# Altium integrated library Linear Technology PMIC-Switching Reg LTC1174-LTC3901.IntLib: 2647 symbols (part 40 of 310)
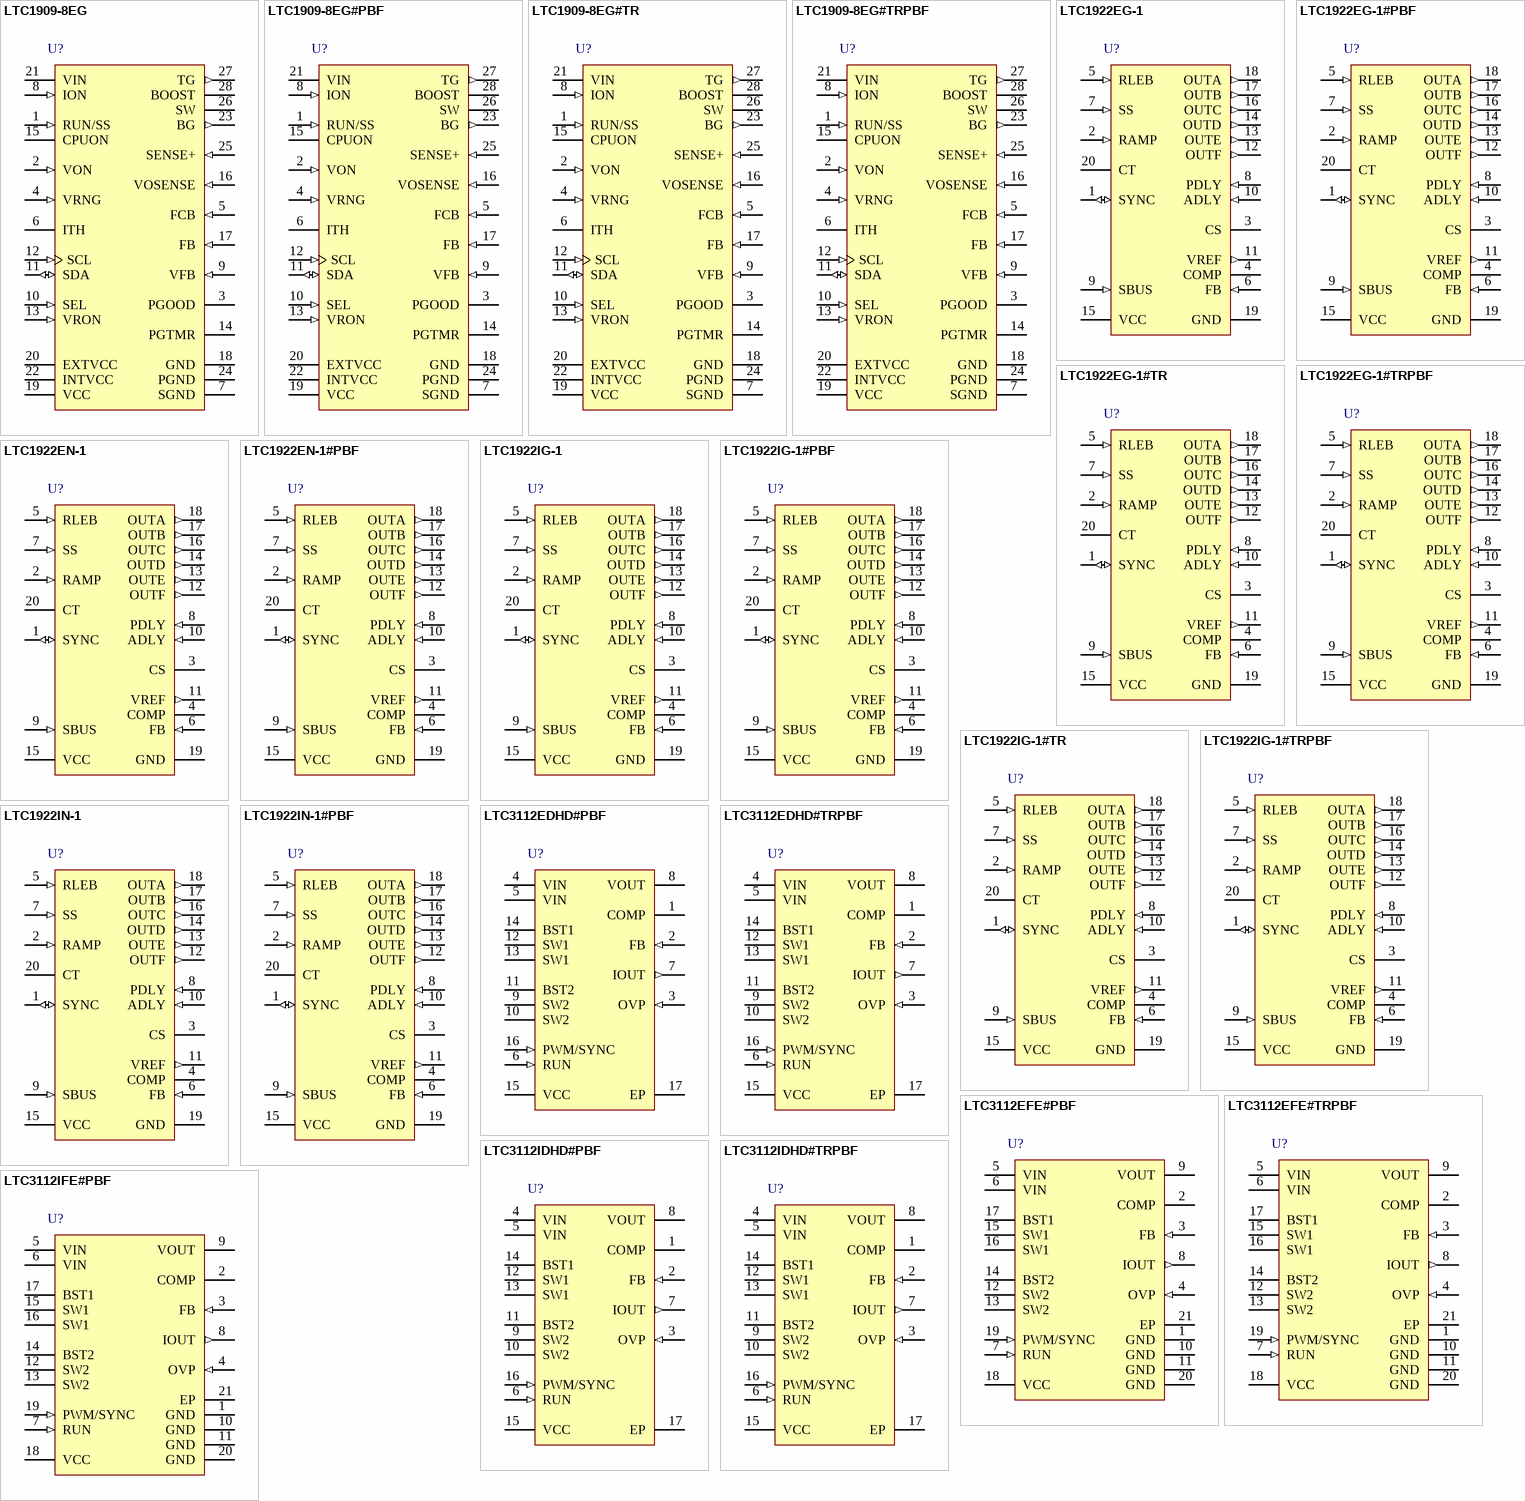
[diagram p138: symbols LTC1909-8EG to LTC3112IFE#PBF]

## LTC1922EN-1
designator U?
Synchronous Phase Modulated Full-Bridge Controller, Adaptive DirectSense Zero Voltage Switching, 20-pin DIP (N-20), -40 to 85 degC; Manufacturer: Linear Technology; PartNumber: LTC1922EN-1; Number of Outputs: 1; PackageReference: N-20; PackageDescription: 20-Pin PDIP, Body 26.924 x 6.477 mm, Pitch 2.54 mm; Supplier 1: Digi-Key; Supplier Part Number 1: LTC1922EN-1-ND; RoHS: FALSE
footprint LT-N-20 (DIP, 20-Leads, Body 26.924x6.477mm, Pitch 2.54mm)
pins: 1 SYNC (io) "Synchronization Input/Output for the Oscillator. Terminate SYNC with a 5.1k resistor to GND.", 2 RAMP (in) "Input to Phase Modulator Comparator. The voltage on RAMP is internally level shifted by 400mV.", 3 CS "Input to Current Limit Comparators, Output of Slope Compensation Circuitry", 4 COMP "Error Amplifier Output, Input to Phase Modulator.", 5 RLEB (in) "Timing Resistor for Leading Edge Blanking. Use a 10k to 100k resistor to program from 40ns to 310ns of leading edge blanking. A +/-1% tolerance resistor is recommended. Leading edge blanking may be defeated by connecting (See Datasheet)", 6 FB (in) "Error Amplifier Inverting Input. This is the voltage feedback input for the LTC1922-1.", 7 SS (in) "Soft-Start/Restart Delay Circuitry Timing Capacitor.", 8 PDLY (in) "Passive Leg Delay Circuit Input.", 9 SBUS (in) "Input (Bus) Voltage Sensing Input", 10 ADLY (in) "Active Leg Delay Circuit Input", 11 VREF (out) "5V Reference Output. VREF is capable of supplying up to 15mA to external circuitry. Bypass VREF with a 1uF (minimum) ceramic capacitor to GND.", 12 OUTF (out) "50mA Driver Output for Secondary Side Current Doubler Synchronous Rectifier.", 13 OUTE (out) "50mA Driver Output for Secondary Side Current Doubler Synchronous Rectifier.", 14 OUTD (out) "50mA Driver Output for Active Leg Low Side.", 15 VCC (power) "Chip Power Supply Input, 10.3V Shunt Regulator. Bypass VCC with a 0.1uF or larger ceramic capacitor to GND.", 16 OUTC (out) "50mA Driver Output for Active Leg High Side.", 17 OUTB (out) "50mA Driver Output for Passive Leg Low Side.", 18 OUTA (out) "50mA Driver Output for Passive Leg High Side.", 19 GND (power) "All Voltages on the LTC1922-1 Are Referred to GND.", 20 CT "Timing Capacitor for Oscillator. Use +/-5% or better multilayer NPO ceramic for best results."

## LTC1922EN-1#PBF
designator U?
Synchronous Phase Modulated Full-Bridge Controller, Adaptive DirectSense Zero Voltage Switching, 20-pin DIP (N-20), -40 to 85 degC, Pb-Free; Manufacturer: Linear Technology; PartNumber: LTC1922EN-1#PBF; Number of Outputs: 1; PackageReference: N-20; PackageDescription: 20-Pin PDIP, Body 26.924 x 6.477 mm, Pitch 2.54 mm; Supplier 1: Digi-Key; Supplier Part Number 1: LTC1922EN-1#PBF-ND; RoHS: TRUE
footprint LT-N-20 (DIP, 20-Leads, Body 26.924x6.477mm, Pitch 2.54mm)
pins: 1 SYNC (io) "Synchronization Input/Output for the Oscillator. Terminate SYNC with a 5.1k resistor to GND.", 2 RAMP (in) "Input to Phase Modulator Comparator. The voltage on RAMP is internally level shifted by 400mV.", 3 CS "Input to Current Limit Comparators, Output of Slope Compensation Circuitry", 4 COMP "Error Amplifier Output, Input to Phase Modulator.", 5 RLEB (in) "Timing Resistor for Leading Edge Blanking. Use a 10k to 100k resistor to program from 40ns to 310ns of leading edge blanking. A +/-1% tolerance resistor is recommended. Leading edge blanking may be defeated by connecting (See Datasheet)", 6 FB (in) "Error Amplifier Inverting Input. This is the voltage feedback input for the LTC1922-1.", 7 SS (in) "Soft-Start/Restart Delay Circuitry Timing Capacitor.", 8 PDLY (in) "Passive Leg Delay Circuit Input.", 9 SBUS (in) "Input (Bus) Voltage Sensing Input", 10 ADLY (in) "Active Leg Delay Circuit Input", 11 VREF (out) "5V Reference Output. VREF is capable of supplying up to 15mA to external circuitry. Bypass VREF with a 1uF (minimum) ceramic capacitor to GND.", 12 OUTF (out) "50mA Driver Output for Secondary Side Current Doubler Synchronous Rectifier.", 13 OUTE (out) "50mA Driver Output for Secondary Side Current Doubler Synchronous Rectifier.", 14 OUTD (out) "50mA Driver Output for Active Leg Low Side.", 15 VCC (power) "Chip Power Supply Input, 10.3V Shunt Regulator. Bypass VCC with a 0.1uF or larger ceramic capacitor to GND.", 16 OUTC (out) "50mA Driver Output for Active Leg High Side.", 17 OUTB (out) "50mA Driver Output for Passive Leg Low Side.", 18 OUTA (out) "50mA Driver Output for Passive Leg High Side.", 19 GND (power) "All Voltages on the LTC1922-1 Are Referred to GND.", 20 CT "Timing Capacitor for Oscillator. Use +/-5% or better multilayer NPO ceramic for best results."

## LTC1922IG-1
designator U?
Synchronous Phase Modulated Full-Bridge Controller, Adaptive DirectSense Zero Voltage Switching, 20-pin SOP (G-20), -40 to 85 degC; Manufacturer: Linear Technology; PartNumber: LTC1922IG-1; Number of Outputs: 1; PackageReference: G-20; PackageDescription: 20-Pin Plastic SSOP, Body 7.2 x 5.3 mm, Pitch 0.65 mm; Supplier 1: Digi-Key; Supplier Part Number 1: LTC1922IG-1-ND; RoHS: FALSE
footprint LT-G-20_N (SOP, 20-Leads, Body 7.2x5.3mm, Pitch 0.65mm, IPC Medium Density)
footprint LT-G-20_L (SOP, 20-Leads, Body 7.2x5.3mm, Pitch 0.65mm, IPC High Density)
footprint LT-G-20_M (SOP, 20-Leads, Body 7.2x5.3mm, Pitch 0.65mm, IPC Low Density)
pins: 1 SYNC (io) "Synchronization Input/Output for the Oscillator. Terminate SYNC with a 5.1k resistor to GND.", 2 RAMP (in) "Input to Phase Modulator Comparator. The voltage on RAMP is internally level shifted by 400mV.", 3 CS "Input to Current Limit Comparators, Output of Slope Compensation Circuitry", 4 COMP "Error Amplifier Output, Input to Phase Modulator.", 5 RLEB (in) "Timing Resistor for Leading Edge Blanking. Use a 10k to 100k resistor to program from 40ns to 310ns of leading edge blanking. A +/-1% tolerance resistor is recommended. Leading edge blanking may be defeated by connecting (See Datasheet)", 6 FB (in) "Error Amplifier Inverting Input. This is the voltage feedback input for the LTC1922-1.", 7 SS (in) "Soft-Start/Restart Delay Circuitry Timing Capacitor.", 8 PDLY (in) "Passive Leg Delay Circuit Input.", 9 SBUS (in) "Input (Bus) Voltage Sensing Input", 10 ADLY (in) "Active Leg Delay Circuit Input", 11 VREF (out) "5V Reference Output. VREF is capable of supplying up to 15mA to external circuitry. Bypass VREF with a 1uF (minimum) ceramic capacitor to GND.", 12 OUTF (out) "50mA Driver Output for Secondary Side Current Doubler Synchronous Rectifier.", 13 OUTE (out) "50mA Driver Output for Secondary Side Current Doubler Synchronous Rectifier.", 14 OUTD (out) "50mA Driver Output for Active Leg Low Side.", 15 VCC (power) "Chip Power Supply Input, 10.3V Shunt Regulator. Bypass VCC with a 0.1uF or larger ceramic capacitor to GND.", 16 OUTC (out) "50mA Driver Output for Active Leg High Side.", 17 OUTB (out) "50mA Driver Output for Passive Leg Low Side.", 18 OUTA (out) "50mA Driver Output for Passive Leg High Side.", 19 GND (power) "All Voltages on the LTC1922-1 Are Referred to GND.", 20 CT "Timing Capacitor for Oscillator. Use +/-5% or better multilayer NPO ceramic for best results."

## LTC1922IG-1#PBF
designator U?
Synchronous Phase Modulated Full-Bridge Controller, Adaptive DirectSense Zero Voltage Switching, 20-pin SOP (G-20), -40 to 85 degC, Pb-Free; Manufacturer: Linear Technology; PartNumber: LTC1922IG-1#PBF; Number of Outputs: 1; PackageReference: G-20; PackageDescription: 20-Pin Plastic SSOP, Body 7.2 x 5.3 mm, Pitch 0.65 mm; Supplier 1: Digi-Key; Supplier Part Number 1: LTC1922IG-1#PBF-ND; RoHS: TRUE
footprint LT-G-20_N (SOP, 20-Leads, Body 7.2x5.3mm, Pitch 0.65mm, IPC Medium Density)
footprint LT-G-20_L (SOP, 20-Leads, Body 7.2x5.3mm, Pitch 0.65mm, IPC High Density)
footprint LT-G-20_M (SOP, 20-Leads, Body 7.2x5.3mm, Pitch 0.65mm, IPC Low Density)
pins: 1 SYNC (io) "Synchronization Input/Output for the Oscillator. Terminate SYNC with a 5.1k resistor to GND.", 2 RAMP (in) "Input to Phase Modulator Comparator. The voltage on RAMP is internally level shifted by 400mV.", 3 CS "Input to Current Limit Comparators, Output of Slope Compensation Circuitry", 4 COMP "Error Amplifier Output, Input to Phase Modulator.", 5 RLEB (in) "Timing Resistor for Leading Edge Blanking. Use a 10k to 100k resistor to program from 40ns to 310ns of leading edge blanking. A +/-1% tolerance resistor is recommended. Leading edge blanking may be defeated by connecting (See Datasheet)", 6 FB (in) "Error Amplifier Inverting Input. This is the voltage feedback input for the LTC1922-1.", 7 SS (in) "Soft-Start/Restart Delay Circuitry Timing Capacitor.", 8 PDLY (in) "Passive Leg Delay Circuit Input.", 9 SBUS (in) "Input (Bus) Voltage Sensing Input", 10 ADLY (in) "Active Leg Delay Circuit Input", 11 VREF (out) "5V Reference Output. VREF is capable of supplying up to 15mA to external circuitry. Bypass VREF with a 1uF (minimum) ceramic capacitor to GND.", 12 OUTF (out) "50mA Driver Output for Secondary Side Current Doubler Synchronous Rectifier.", 13 OUTE (out) "50mA Driver Output for Secondary Side Current Doubler Synchronous Rectifier.", 14 OUTD (out) "50mA Driver Output for Active Leg Low Side.", 15 VCC (power) "Chip Power Supply Input, 10.3V Shunt Regulator. Bypass VCC with a 0.1uF or larger ceramic capacitor to GND.", 16 OUTC (out) "50mA Driver Output for Active Leg High Side.", 17 OUTB (out) "50mA Driver Output for Passive Leg Low Side.", 18 OUTA (out) "50mA Driver Output for Passive Leg High Side.", 19 GND (power) "All Voltages on the LTC1922-1 Are Referred to GND.", 20 CT "Timing Capacitor for Oscillator. Use +/-5% or better multilayer NPO ceramic for best results."

## LTC1922IG-1#TR
designator U?
Synchronous Phase Modulated Full-Bridge Controller, Adaptive DirectSense Zero Voltage Switching, 20-pin SOP (G-20), -40 to 85 degC, Tape and Reel; Manufacturer: Linear Technology; PartNumber: LTC1922IG-1#TR; Number of Outputs: 1; PackageReference: G-20; PackageDescription: 20-Pin Plastic SSOP, Body 7.2 x 5.3 mm, Pitch 0.65 mm; Supplier 1: Digi-Key; Supplier Part Number 1: LTC1922IG-1#TR-ND; RoHS: FALSE
footprint LT-G-20_N (SOP, 20-Leads, Body 7.2x5.3mm, Pitch 0.65mm, IPC Medium Density)
footprint LT-G-20_L (SOP, 20-Leads, Body 7.2x5.3mm, Pitch 0.65mm, IPC High Density)
footprint LT-G-20_M (SOP, 20-Leads, Body 7.2x5.3mm, Pitch 0.65mm, IPC Low Density)
pins: 1 SYNC (io) "Synchronization Input/Output for the Oscillator. Terminate SYNC with a 5.1k resistor to GND.", 2 RAMP (in) "Input to Phase Modulator Comparator. The voltage on RAMP is internally level shifted by 400mV.", 3 CS "Input to Current Limit Comparators, Output of Slope Compensation Circuitry", 4 COMP "Error Amplifier Output, Input to Phase Modulator.", 5 RLEB (in) "Timing Resistor for Leading Edge Blanking. Use a 10k to 100k resistor to program from 40ns to 310ns of leading edge blanking. A +/-1% tolerance resistor is recommended. Leading edge blanking may be defeated by connecting (See Datasheet)", 6 FB (in) "Error Amplifier Inverting Input. This is the voltage feedback input for the LTC1922-1.", 7 SS (in) "Soft-Start/Restart Delay Circuitry Timing Capacitor.", 8 PDLY (in) "Passive Leg Delay Circuit Input.", 9 SBUS (in) "Input (Bus) Voltage Sensing Input", 10 ADLY (in) "Active Leg Delay Circuit Input", 11 VREF (out) "5V Reference Output. VREF is capable of supplying up to 15mA to external circuitry. Bypass VREF with a 1uF (minimum) ceramic capacitor to GND.", 12 OUTF (out) "50mA Driver Output for Secondary Side Current Doubler Synchronous Rectifier.", 13 OUTE (out) "50mA Driver Output for Secondary Side Current Doubler Synchronous Rectifier.", 14 OUTD (out) "50mA Driver Output for Active Leg Low Side.", 15 VCC (power) "Chip Power Supply Input, 10.3V Shunt Regulator. Bypass VCC with a 0.1uF or larger ceramic capacitor to GND.", 16 OUTC (out) "50mA Driver Output for Active Leg High Side.", 17 OUTB (out) "50mA Driver Output for Passive Leg Low Side.", 18 OUTA (out) "50mA Driver Output for Passive Leg High Side.", 19 GND (power) "All Voltages on the LTC1922-1 Are Referred to GND.", 20 CT "Timing Capacitor for Oscillator. Use +/-5% or better multilayer NPO ceramic for best results."

## LTC1922IG-1#TRPBF
designator U?
Synchronous Phase Modulated Full-Bridge Controller, Adaptive DirectSense Zero Voltage Switching, 20-pin SOP (G-20), -40 to 85 degC, Pb-Free, Tape and Reel; Manufacturer: Linear Technology; PartNumber: LTC1922IG-1#TRPBF; Number of Outputs: 1; PackageReference: G-20; PackageDescription: 20-Pin Plastic SSOP, Body 7.2 x 5.3 mm, Pitch 0.65 mm; Supplier 1: Digi-Key; Supplier Part Number 1: LTC1922IG-1#TRPBF-ND; RoHS: TRUE
footprint LT-G-20_N (SOP, 20-Leads, Body 7.2x5.3mm, Pitch 0.65mm, IPC Medium Density)
footprint LT-G-20_L (SOP, 20-Leads, Body 7.2x5.3mm, Pitch 0.65mm, IPC High Density)
footprint LT-G-20_M (SOP, 20-Leads, Body 7.2x5.3mm, Pitch 0.65mm, IPC Low Density)
pins: 1 SYNC (io) "Synchronization Input/Output for the Oscillator. Terminate SYNC with a 5.1k resistor to GND.", 2 RAMP (in) "Input to Phase Modulator Comparator. The voltage on RAMP is internally level shifted by 400mV.", 3 CS "Input to Current Limit Comparators, Output of Slope Compensation Circuitry", 4 COMP "Error Amplifier Output, Input to Phase Modulator.", 5 RLEB (in) "Timing Resistor for Leading Edge Blanking. Use a 10k to 100k resistor to program from 40ns to 310ns of leading edge blanking. A +/-1% tolerance resistor is recommended. Leading edge blanking may be defeated by connecting (See Datasheet)", 6 FB (in) "Error Amplifier Inverting Input. This is the voltage feedback input for the LTC1922-1.", 7 SS (in) "Soft-Start/Restart Delay Circuitry Timing Capacitor.", 8 PDLY (in) "Passive Leg Delay Circuit Input.", 9 SBUS (in) "Input (Bus) Voltage Sensing Input", 10 ADLY (in) "Active Leg Delay Circuit Input", 11 VREF (out) "5V Reference Output. VREF is capable of supplying up to 15mA to external circuitry. Bypass VREF with a 1uF (minimum) ceramic capacitor to GND.", 12 OUTF (out) "50mA Driver Output for Secondary Side Current Doubler Synchronous Rectifier.", 13 OUTE (out) "50mA Driver Output for Secondary Side Current Doubler Synchronous Rectifier.", 14 OUTD (out) "50mA Driver Output for Active Leg Low Side.", 15 VCC (power) "Chip Power Supply Input, 10.3V Shunt Regulator. Bypass VCC with a 0.1uF or larger ceramic capacitor to GND.", 16 OUTC (out) "50mA Driver Output for Active Leg High Side.", 17 OUTB (out) "50mA Driver Output for Passive Leg Low Side.", 18 OUTA (out) "50mA Driver Output for Passive Leg High Side.", 19 GND (power) "All Voltages on the LTC1922-1 Are Referred to GND.", 20 CT "Timing Capacitor for Oscillator. Use +/-5% or better multilayer NPO ceramic for best results."

## LTC1922IN-1
designator U?
Synchronous Phase Modulated Full-Bridge Controller, Adaptive DirectSense Zero Voltage Switching, 20-pin DIP (N-20), -40 to 85 degC; Manufacturer: Linear Technology; PartNumber: LTC1922IN-1; Number of Outputs: 1; PackageReference: N-20; PackageDescription: 20-Pin PDIP, Body 26.924 x 6.477 mm, Pitch 2.54 mm; Supplier 1: Digi-Key; Supplier Part Number 1: LTC1922IN-1-ND; RoHS: FALSE
footprint LT-N-20 (DIP, 20-Leads, Body 26.924x6.477mm, Pitch 2.54mm)
pins: 1 SYNC (io) "Synchronization Input/Output for the Oscillator. Terminate SYNC with a 5.1k resistor to GND.", 2 RAMP (in) "Input to Phase Modulator Comparator. The voltage on RAMP is internally level shifted by 400mV.", 3 CS "Input to Current Limit Comparators, Output of Slope Compensation Circuitry", 4 COMP "Error Amplifier Output, Input to Phase Modulator.", 5 RLEB (in) "Timing Resistor for Leading Edge Blanking. Use a 10k to 100k resistor to program from 40ns to 310ns of leading edge blanking. A +/-1% tolerance resistor is recommended. Leading edge blanking may be defeated by connecting (See Datasheet)", 6 FB (in) "Error Amplifier Inverting Input. This is the voltage feedback input for the LTC1922-1.", 7 SS (in) "Soft-Start/Restart Delay Circuitry Timing Capacitor.", 8 PDLY (in) "Passive Leg Delay Circuit Input.", 9 SBUS (in) "Input (Bus) Voltage Sensing Input", 10 ADLY (in) "Active Leg Delay Circuit Input", 11 VREF (out) "5V Reference Output. VREF is capable of supplying up to 15mA to external circuitry. Bypass VREF with a 1uF (minimum) ceramic capacitor to GND.", 12 OUTF (out) "50mA Driver Output for Secondary Side Current Doubler Synchronous Rectifier.", 13 OUTE (out) "50mA Driver Output for Secondary Side Current Doubler Synchronous Rectifier.", 14 OUTD (out) "50mA Driver Output for Active Leg Low Side.", 15 VCC (power) "Chip Power Supply Input, 10.3V Shunt Regulator. Bypass VCC with a 0.1uF or larger ceramic capacitor to GND.", 16 OUTC (out) "50mA Driver Output for Active Leg High Side.", 17 OUTB (out) "50mA Driver Output for Passive Leg Low Side.", 18 OUTA (out) "50mA Driver Output for Passive Leg High Side.", 19 GND (power) "All Voltages on the LTC1922-1 Are Referred to GND.", 20 CT "Timing Capacitor for Oscillator. Use +/-5% or better multilayer NPO ceramic for best results."

## LTC1922IN-1#PBF
designator U?
Synchronous Phase Modulated Full-Bridge Controller, Adaptive DirectSense Zero Voltage Switching, 20-pin DIP (N-20), -40 to 85 degC, Pb-Free; Manufacturer: Linear Technology; PartNumber: LTC1922IN-1#PBF; Number of Outputs: 1; PackageReference: N-20; PackageDescription: 20-Pin PDIP, Body 26.924 x 6.477 mm, Pitch 2.54 mm; Supplier 1: Digi-Key; Supplier Part Number 1: LTC1922IN-1#PBF-ND; RoHS: TRUE
footprint LT-N-20 (DIP, 20-Leads, Body 26.924x6.477mm, Pitch 2.54mm)
pins: 1 SYNC (io) "Synchronization Input/Output for the Oscillator. Terminate SYNC with a 5.1k resistor to GND.", 2 RAMP (in) "Input to Phase Modulator Comparator. The voltage on RAMP is internally level shifted by 400mV.", 3 CS "Input to Current Limit Comparators, Output of Slope Compensation Circuitry", 4 COMP "Error Amplifier Output, Input to Phase Modulator.", 5 RLEB (in) "Timing Resistor for Leading Edge Blanking. Use a 10k to 100k resistor to program from 40ns to 310ns of leading edge blanking. A +/-1% tolerance resistor is recommended. Leading edge blanking may be defeated by connecting (See Datasheet)", 6 FB (in) "Error Amplifier Inverting Input. This is the voltage feedback input for the LTC1922-1.", 7 SS (in) "Soft-Start/Restart Delay Circuitry Timing Capacitor.", 8 PDLY (in) "Passive Leg Delay Circuit Input.", 9 SBUS (in) "Input (Bus) Voltage Sensing Input", 10 ADLY (in) "Active Leg Delay Circuit Input", 11 VREF (out) "5V Reference Output. VREF is capable of supplying up to 15mA to external circuitry. Bypass VREF with a 1uF (minimum) ceramic capacitor to GND.", 12 OUTF (out) "50mA Driver Output for Secondary Side Current Doubler Synchronous Rectifier.", 13 OUTE (out) "50mA Driver Output for Secondary Side Current Doubler Synchronous Rectifier.", 14 OUTD (out) "50mA Driver Output for Active Leg Low Side.", 15 VCC (power) "Chip Power Supply Input, 10.3V Shunt Regulator. Bypass VCC with a 0.1uF or larger ceramic capacitor to GND.", 16 OUTC (out) "50mA Driver Output for Active Leg High Side.", 17 OUTB (out) "50mA Driver Output for Passive Leg Low Side.", 18 OUTA (out) "50mA Driver Output for Passive Leg High Side.", 19 GND (power) "All Voltages on the LTC1922-1 Are Referred to GND.", 20 CT "Timing Capacitor for Oscillator. Use +/-5% or better multilayer NPO ceramic for best results."

## LTC3112EDHD#PBF
designator U?
2.5 A Synchronous Buck-Boost DC/DC Converter, 16-pin SON (DHD-16), -40 to 125 degC, Pb-Free; Manufacturer: Linear Technology; PartNumber: LTC3112EDHD#PBF; Number of Outputs: 1; PackageReference: DHD-16; PackageDescription: 16-Pin Plastic DFN, Body 5 x 4 mm, Pitch 0.5 mm; Supplier 1: Digi-Key; Supplier Part Number 1: LTC3112EDHD#PBF-ND; RoHS: TRUE; Code_JEDEC: MO-229
footprint LT-DHD-16_V (SON, 16-Leads, Body 5x4mm, Pitch 0.5mm, Thermal Pad 4.34x2.44mm)
pins: 1 COMP "Error Amp Output. An R-C network connected from this pin to FB sets the loop compensation for the voltage converter.", 2 FB (in) "Feedback Voltage Input. Connect VOUT resistor divider tap to this pin. The output voltage can be adjusted from 2.5V to 14V by the following equation:VOUT = 0.8V?(1+ R1/R2),where R1 is the resistor between VOUT and FB an(See Datasheet)", 3 OVP (in) "Overvoltage Protection Input. The common point of a resistor divider between VOUT and GND can also be used to program the overvoltage protection to a lower voltage by the following equation:VOVP = 0.83V?1+ R3/R4),where R(See Datasheet)", 4 VIN (power) "Input Supply Voltage. This pin should be bypassed to the ground plane with at least 10uF of low ESR, low ESL ceramic capacitance. Place this capacitor as close to the pin as possible and have as short a return path to the (See Datasheet)", 5 VIN (power) "Input Supply Voltage. This pin should be bypassed to the ground plane with at least 10uF of low ESR, low ESL ceramic capacitance. Place this capacitor as close to the pin as possible and have as short a return path to the (See Datasheet)", 6 RUN (in) "Shutdown Control Input. Operation will be disabled when the voltage is forced below 0.75V (typical) and less than 1uA of quiescent current will be consumed.", 7 IOUT (out) "A Current approximately 24uA/A of the D Switch Output Current is Sourced from this Pin. An R-C circuit can be used to control the average output current or provide an analog output current monitor (see Applications (See Datasheet)", 8 VOUT (power) "Regulated Output Voltage. This pin should be connected to a low ESR ceramic capacitor of at least 47uF. The capacitor should be placed as close to the pin as possible and have a short return to the ground plane.", 9 SW2 "Internal switches C and D and the external inductor are connected here.", 10 SW2 "Internal switches C and D and the external inductor are connected here.", 11 BST2 "Boosted Floating Driver Supply for D-Switch Driver. Connect a 0.1uF capacitor from this pin to SW2.", 12 SW1 "Internal switches A and B and the external inductor are connected here.", 13 SW1 "Internal switches A and B and the external inductor are connected here.", 14 BST1 "Boosted Floating Driver Supply for A-Switch Driver. Connect a 0.1uF capacitor from this pin to SW1.", 15 VCC (power) "External Capacitor Connection for the Regulated VCC Supply. This supply is used to operate internal circuitry and switch drivers. VCC will track VIN up to 4.2V, but will maintain this voltage when VIN > 4.2V. Connect a 1uF (See Datasheet)", 16 PWM/SYNC (in), 17 EP (power) "Ground. Small-Signal and Power Ground for the IC. The exposed pad must be soldered to the PCB and electrically connected to ground through the shortest and lowest impedance connection possible. The bulk of the heat flow is (See Datasheet)"

## LTC3112EDHD#TRPBF
designator U?
2.5 A Synchronous Buck-Boost DC/DC Converter, 16-pin SON (DHD-16), -40 to 125 degC, Pb-Free, Tape and Reel; Manufacturer: Linear Technology; PartNumber: LTC3112EDHD#TRPBF; Number of Outputs: 1; PackageReference: DHD-16; PackageDescription: 16-Pin Plastic DFN, Body 5 x 4 mm, Pitch 0.5 mm; Supplier 1: Digi-Key; Supplier Part Number 1: LTC3112EDHD#TRPBF-ND; RoHS: TRUE; Code_JEDEC: MO-229
footprint LT-DHD-16_V (SON, 16-Leads, Body 5x4mm, Pitch 0.5mm, Thermal Pad 4.34x2.44mm)
pins: 1 COMP "Error Amp Output. An R-C network connected from this pin to FB sets the loop compensation for the voltage converter.", 2 FB (in) "Feedback Voltage Input. Connect VOUT resistor divider tap to this pin. The output voltage can be adjusted from 2.5V to 14V by the following equation:VOUT = 0.8V?(1+ R1/R2),where R1 is the resistor between VOUT and FB an(See Datasheet)", 3 OVP (in) "Overvoltage Protection Input. The common point of a resistor divider between VOUT and GND can also be used to program the overvoltage protection to a lower voltage by the following equation:VOVP = 0.83V?1+ R3/R4),where R(See Datasheet)", 4 VIN (power) "Input Supply Voltage. This pin should be bypassed to the ground plane with at least 10uF of low ESR, low ESL ceramic capacitance. Place this capacitor as close to the pin as possible and have as short a return path to the (See Datasheet)", 5 VIN (power) "Input Supply Voltage. This pin should be bypassed to the ground plane with at least 10uF of low ESR, low ESL ceramic capacitance. Place this capacitor as close to the pin as possible and have as short a return path to the (See Datasheet)", 6 RUN (in) "Shutdown Control Input. Operation will be disabled when the voltage is forced below 0.75V (typical) and less than 1uA of quiescent current will be consumed.", 7 IOUT (out) "A Current approximately 24uA/A of the D Switch Output Current is Sourced from this Pin. An R-C circuit can be used to control the average output current or provide an analog output current monitor (see Applications (See Datasheet)", 8 VOUT (power) "Regulated Output Voltage. This pin should be connected to a low ESR ceramic capacitor of at least 47uF. The capacitor should be placed as close to the pin as possible and have a short return to the ground plane.", 9 SW2 "Internal switches C and D and the external inductor are connected here.", 10 SW2 "Internal switches C and D and the external inductor are connected here.", 11 BST2 "Boosted Floating Driver Supply for D-Switch Driver. Connect a 0.1uF capacitor from this pin to SW2.", 12 SW1 "Internal switches A and B and the external inductor are connected here.", 13 SW1 "Internal switches A and B and the external inductor are connected here.", 14 BST1 "Boosted Floating Driver Supply for A-Switch Driver. Connect a 0.1uF capacitor from this pin to SW1.", 15 VCC (power) "External Capacitor Connection for the Regulated VCC Supply. This supply is used to operate internal circuitry and switch drivers. VCC will track VIN up to 4.2V, but will maintain this voltage when VIN > 4.2V. Connect a 1uF (See Datasheet)", 16 PWM/SYNC (in), 17 EP (power) "Ground. Small-Signal and Power Ground for the IC. The exposed pad must be soldered to the PCB and electrically connected to ground through the shortest and lowest impedance connection possible. The bulk of the heat flow is (See Datasheet)"

## LTC3112EFE#PBF
designator U?
2.5 A Synchronous Buck-Boost DC/DC Converter, 20-pin SOP (FE-20-EPV-CA), -40 to 125 degC, Pb-Free; Manufacturer: Linear Technology; PartNumber: LTC3112EFE#PBF; Number of Outputs: 1; PackageReference: FE-20; PackageDescription: 20-Pin Plastic TSSOP, Body 6.5 x 4.4 mm, Pitch 0.65 mm; Supplier 1: Digi-Key; Supplier Part Number 1: LTC3112EFE#PBF-ND; RoHS: TRUE
footprint LT-FE-20-EPV-CA_N (SOP, 20-Leads, Body 6.6x4.5mm, Pitch 0.65mm, Thermal Pad 4.95x2.74mm, IPC Medium Density)
footprint LT-FE-20-EPV-CA_L (SOP, 20-Leads, Body 6.6x4.5mm, Pitch 0.65mm, Thermal Pad 4.95x2.74mm, IPC High Density)
footprint LT-FE-20-EPV-CA_M (SOP, 20-Leads, Body 6.6x4.5mm, Pitch 0.65mm, Thermal Pad 4.95x2.74mm, IPC Low Density)
pins: 1 GND (power) "Ground. Small-Signal and Power Ground for the IC.", 2 COMP "Error Amp Output. An R-C network connected from this pin to FB sets the loop compensation for the voltage converter.", 3 FB (in) "Feedback Voltage Input. Connect VOUT resistor divider tap to this pin. The output voltage can be adjusted from 2.5V to 14V by the following equation: VOUT = 0.8V? (1+R1/R2) where R1 is the resistor between VOUT and FB an(See Datasheet)", 4 OVP (in) "Overvoltage Protection Input. The common point of a resistor divider between VOUT and GND can also be used to program the overvoltage protection to a lower voltage by the following equation: VOVP = 0.83V? (1+R3/R4) wher(See Datasheet)", 5 VIN (power) "Input Supply Voltage. This pin should be bypassed to the ground plane with at least 10uF of low ESR, low ESL ceramic capacitance. Place this capacitor as close to the pin as possible and have as short a return path to the (See Datasheet)", 6 VIN (power) "Input Supply Voltage. This pin should be bypassed to the ground plane with at least 10uF of low ESR, low ESL ceramic capacitance. Place this capacitor as close to the pin as possible and have as short a return path to the (See Datasheet)", 7 RUN (in) "Shutdown Control Input. Operation will be disabled when the voltage is forced below 0.75V (typical) and less than 1uA of quiescent current will be consumed.", 8 IOUT (out) "A Current approximately 24uA/A of the D Switch Output Current is Sourced from this Pin. An R-C circuit can be used to control the average output current or provide an analog output current monitor (see Applications (See Datasheet)", 9 VOUT (power) "Regulated Output Voltage. This pin should be connected to a low ESR ceramic capacitor of at least 47uF. The capacitor should be placed as close to the pin as possible and have a short return to the ground plane.", 10 GND (power) "Ground. Small-Signal and Power Ground for the IC.", 11 GND (power) "Ground. Small-Signal and Power Ground for the IC.", 12 SW2 "Internal switches C and D and the external inductor are connected here.", 13 SW2 "Internal switches C and D and the external inductor are connected here.", 14 BST2 "Boosted Floating Driver Supply for D-Switch Driver. Connect a 0.1uF capacitor from this pin to SW2.", 15 SW1 "Internal switches A and B and the external inductor are connected here.", 16 SW1 "Internal switches A and B and the external inductor are connected here.", 17 BST1 "Boosted Floating Driver Supply for A-Switch Driver. Connect a 0.1uF capacitor from this pin to SW1.", 18 VCC (power) "External Capacitor Connection for the Regulated VCC Supply. This supply is used to operate internal circuitry and switch drivers. VCC will track VIN up to 4.2V, but will maintain this voltage when VIN > 4.2V. Connect a 1uF (See Datasheet)", 19 PWM/SYNC (in) "Burst Mode Control and Synchronization Input. A DC voltage <0.5V commands Burst Mode operation, >1.5V commands 750kHz fixed frequency mode. A digital pulse train between 300kHz and 1500kHz applied to this pin will override (See Datasheet)", 20 GND (power) "Ground. Small-Signal and Power Ground for the IC.", 21 EP (power) "The exposed pad must be soldered to the PCB and electrically connected to ground through the shortest and lowest impedance connection possible. The bulk of the heat flow is through this pad, so printed circuit board design (See Datasheet)"

## LTC3112EFE#TRPBF
designator U?
2.5 A Synchronous Buck-Boost DC/DC Converter, 20-pin SOP (FE-20-EPV-CA), -40 to 125 degC, Pb-Free, Tape and Reel; Manufacturer: Linear Technology; PartNumber: LTC3112EFE#TRPBF; Number of Outputs: 1; PackageReference: FE-20; PackageDescription: 20-Pin Plastic TSSOP, Body 6.5 x 4.4 mm, Pitch 0.65 mm; Supplier 1: Digi-Key; Supplier Part Number 1: LTC3112EFE#TRPBF-ND; RoHS: TRUE
footprint LT-FE-20-EPV-CA_N (SOP, 20-Leads, Body 6.6x4.5mm, Pitch 0.65mm, Thermal Pad 4.95x2.74mm, IPC Medium Density)
footprint LT-FE-20-EPV-CA_L (SOP, 20-Leads, Body 6.6x4.5mm, Pitch 0.65mm, Thermal Pad 4.95x2.74mm, IPC High Density)
footprint LT-FE-20-EPV-CA_M (SOP, 20-Leads, Body 6.6x4.5mm, Pitch 0.65mm, Thermal Pad 4.95x2.74mm, IPC Low Density)
pins: 1 GND (power) "Ground. Small-Signal and Power Ground for the IC.", 2 COMP "Error Amp Output. An R-C network connected from this pin to FB sets the loop compensation for the voltage converter.", 3 FB (in) "Feedback Voltage Input. Connect VOUT resistor divider tap to this pin. The output voltage can be adjusted from 2.5V to 14V by the following equation: VOUT = 0.8V? (1+R1/R2) where R1 is the resistor between VOUT and FB an(See Datasheet)", 4 OVP (in) "Overvoltage Protection Input. The common point of a resistor divider between VOUT and GND can also be used to program the overvoltage protection to a lower voltage by the following equation: VOVP = 0.83V? (1+R3/R4) wher(See Datasheet)", 5 VIN (power) "Input Supply Voltage. This pin should be bypassed to the ground plane with at least 10uF of low ESR, low ESL ceramic capacitance. Place this capacitor as close to the pin as possible and have as short a return path to the (See Datasheet)", 6 VIN (power) "Input Supply Voltage. This pin should be bypassed to the ground plane with at least 10uF of low ESR, low ESL ceramic capacitance. Place this capacitor as close to the pin as possible and have as short a return path to the (See Datasheet)", 7 RUN (in) "Shutdown Control Input. Operation will be disabled when the voltage is forced below 0.75V (typical) and less than 1uA of quiescent current will be consumed.", 8 IOUT (out) "A Current approximately 24uA/A of the D Switch Output Current is Sourced from this Pin. An R-C circuit can be used to control the average output current or provide an analog output current monitor (see Applications (See Datasheet)", 9 VOUT (power) "Regulated Output Voltage. This pin should be connected to a low ESR ceramic capacitor of at least 47uF. The capacitor should be placed as close to the pin as possible and have a short return to the ground plane.", 10 GND (power) "Ground. Small-Signal and Power Ground for the IC.", 11 GND (power) "Ground. Small-Signal and Power Ground for the IC.", 12 SW2 "Internal switches C and D and the external inductor are connected here.", 13 SW2 "Internal switches C and D and the external inductor are connected here.", 14 BST2 "Boosted Floating Driver Supply for D-Switch Driver. Connect a 0.1uF capacitor from this pin to SW2.", 15 SW1 "Internal switches A and B and the external inductor are connected here.", 16 SW1 "Internal switches A and B and the external inductor are connected here.", 17 BST1 "Boosted Floating Driver Supply for A-Switch Driver. Connect a 0.1uF capacitor from this pin to SW1.", 18 VCC (power) "External Capacitor Connection for the Regulated VCC Supply. This supply is used to operate internal circuitry and switch drivers. VCC will track VIN up to 4.2V, but will maintain this voltage when VIN > 4.2V. Connect a 1uF (See Datasheet)", 19 PWM/SYNC (in) "Burst Mode Control and Synchronization Input. A DC voltage <0.5V commands Burst Mode operation, >1.5V commands 750kHz fixed frequency mode. A digital pulse train between 300kHz and 1500kHz applied to this pin will override (See Datasheet)", 20 GND (power) "Ground. Small-Signal and Power Ground for the IC.", 21 EP (power) "The exposed pad must be soldered to the PCB and electrically connected to ground through the shortest and lowest impedance connection possible. The bulk of the heat flow is through this pad, so printed circuit board design (See Datasheet)"

## LTC3112IDHD#PBF
designator U?
2.5 A Synchronous Buck-Boost DC/DC Converter, 16-pin SON (DHD-16), -40 to 125 degC, Pb-Free; Manufacturer: Linear Technology; PartNumber: LTC3112IDHD#PBF; Number of Outputs: 1; PackageReference: DHD-16; PackageDescription: 16-Pin Plastic DFN, Body 5 x 4 mm, Pitch 0.5 mm; Supplier 1: Digi-Key; Supplier Part Number 1: LTC3112IDHD#PBF-ND; RoHS: TRUE; Code_JEDEC: MO-229
footprint LT-DHD-16_V (SON, 16-Leads, Body 5x4mm, Pitch 0.5mm, Thermal Pad 4.34x2.44mm)
pins: 1 COMP "Error Amp Output. An R-C network connected from this pin to FB sets the loop compensation for the voltage converter.", 2 FB (in) "Feedback Voltage Input. Connect VOUT resistor divider tap to this pin. The output voltage can be adjusted from 2.5V to 14V by the following equation:VOUT = 0.8V?(1+ R1/R2),where R1 is the resistor between VOUT and FB an(See Datasheet)", 3 OVP (in) "Overvoltage Protection Input. The common point of a resistor divider between VOUT and GND can also be used to program the overvoltage protection to a lower voltage by the following equation:VOVP = 0.83V?1+ R3/R4),where R(See Datasheet)", 4 VIN (power) "Input Supply Voltage. This pin should be bypassed to the ground plane with at least 10uF of low ESR, low ESL ceramic capacitance. Place this capacitor as close to the pin as possible and have as short a return path to the (See Datasheet)", 5 VIN (power) "Input Supply Voltage. This pin should be bypassed to the ground plane with at least 10uF of low ESR, low ESL ceramic capacitance. Place this capacitor as close to the pin as possible and have as short a return path to the (See Datasheet)", 6 RUN (in) "Shutdown Control Input. Operation will be disabled when the voltage is forced below 0.75V (typical) and less than 1uA of quiescent current will be consumed.", 7 IOUT (out) "A Current approximately 24uA/A of the D Switch Output Current is Sourced from this Pin. An R-C circuit can be used to control the average output current or provide an analog output current monitor (see Applications (See Datasheet)", 8 VOUT (power) "Regulated Output Voltage. This pin should be connected to a low ESR ceramic capacitor of at least 47uF. The capacitor should be placed as close to the pin as possible and have a short return to the ground plane.", 9 SW2 "Internal switches C and D and the external inductor are connected here.", 10 SW2 "Internal switches C and D and the external inductor are connected here.", 11 BST2 "Boosted Floating Driver Supply for D-Switch Driver. Connect a 0.1uF capacitor from this pin to SW2.", 12 SW1 "Internal switches A and B and the external inductor are connected here.", 13 SW1 "Internal switches A and B and the external inductor are connected here.", 14 BST1 "Boosted Floating Driver Supply for A-Switch Driver. Connect a 0.1uF capacitor from this pin to SW1.", 15 VCC (power) "External Capacitor Connection for the Regulated VCC Supply. This supply is used to operate internal circuitry and switch drivers. VCC will track VIN up to 4.2V, but will maintain this voltage when VIN > 4.2V. Connect a 1uF (See Datasheet)", 16 PWM/SYNC (in), 17 EP (power) "Ground. Small-Signal and Power Ground for the IC. The exposed pad must be soldered to the PCB and electrically connected to ground through the shortest and lowest impedance connection possible. The bulk of the heat flow is (See Datasheet)"

## LTC3112IDHD#TRPBF
designator U?
2.5 A Synchronous Buck-Boost DC/DC Converter, 16-pin SON (DHD-16), -40 to 125 degC, Pb-Free, Tape and Reel; Manufacturer: Linear Technology; PartNumber: LTC3112IDHD#TRPBF; Number of Outputs: 1; PackageReference: DHD-16; PackageDescription: 16-Pin Plastic DFN, Body 5 x 4 mm, Pitch 0.5 mm; Supplier 1: Digi-Key; Supplier Part Number 1: LTC3112IDHD#TRPBF-ND; RoHS: TRUE; Code_JEDEC: MO-229
footprint LT-DHD-16_V (SON, 16-Leads, Body 5x4mm, Pitch 0.5mm, Thermal Pad 4.34x2.44mm)
pins: 1 COMP "Error Amp Output. An R-C network connected from this pin to FB sets the loop compensation for the voltage converter.", 2 FB (in) "Feedback Voltage Input. Connect VOUT resistor divider tap to this pin. The output voltage can be adjusted from 2.5V to 14V by the following equation:VOUT = 0.8V?(1+ R1/R2),where R1 is the resistor between VOUT and FB an(See Datasheet)", 3 OVP (in) "Overvoltage Protection Input. The common point of a resistor divider between VOUT and GND can also be used to program the overvoltage protection to a lower voltage by the following equation:VOVP = 0.83V?1+ R3/R4),where R(See Datasheet)", 4 VIN (power) "Input Supply Voltage. This pin should be bypassed to the ground plane with at least 10uF of low ESR, low ESL ceramic capacitance. Place this capacitor as close to the pin as possible and have as short a return path to the (See Datasheet)", 5 VIN (power) "Input Supply Voltage. This pin should be bypassed to the ground plane with at least 10uF of low ESR, low ESL ceramic capacitance. Place this capacitor as close to the pin as possible and have as short a return path to the (See Datasheet)", 6 RUN (in) "Shutdown Control Input. Operation will be disabled when the voltage is forced below 0.75V (typical) and less than 1uA of quiescent current will be consumed.", 7 IOUT (out) "A Current approximately 24uA/A of the D Switch Output Current is Sourced from this Pin. An R-C circuit can be used to control the average output current or provide an analog output current monitor (see Applications (See Datasheet)", 8 VOUT (power) "Regulated Output Voltage. This pin should be connected to a low ESR ceramic capacitor of at least 47uF. The capacitor should be placed as close to the pin as possible and have a short return to the ground plane.", 9 SW2 "Internal switches C and D and the external inductor are connected here.", 10 SW2 "Internal switches C and D and the external inductor are connected here.", 11 BST2 "Boosted Floating Driver Supply for D-Switch Driver. Connect a 0.1uF capacitor from this pin to SW2.", 12 SW1 "Internal switches A and B and the external inductor are connected here.", 13 SW1 "Internal switches A and B and the external inductor are connected here.", 14 BST1 "Boosted Floating Driver Supply for A-Switch Driver. Connect a 0.1uF capacitor from this pin to SW1.", 15 VCC (power) "External Capacitor Connection for the Regulated VCC Supply. This supply is used to operate internal circuitry and switch drivers. VCC will track VIN up to 4.2V, but will maintain this voltage when VIN > 4.2V. Connect a 1uF (See Datasheet)", 16 PWM/SYNC (in), 17 EP (power) "Ground. Small-Signal and Power Ground for the IC. The exposed pad must be soldered to the PCB and electrically connected to ground through the shortest and lowest impedance connection possible. The bulk of the heat flow is (See Datasheet)"

## LTC3112IFE#PBF
designator U?
2.5 A Synchronous Buck-Boost DC/DC Converter, 20-pin SOP (FE-20-EPV-CA), -40 to 125 degC, Pb-Free; Manufacturer: Linear Technology; PartNumber: LTC3112IFE#PBF; Number of Outputs: 1; PackageReference: FE-20; PackageDescription: 20-Pin Plastic TSSOP, Body 6.5 x 4.4 mm, Pitch 0.65 mm; Supplier 1: Digi-Key; Supplier Part Number 1: LTC3112IFE#PBF-ND; RoHS: TRUE
footprint LT-FE-20-EPV-CA_N (SOP, 20-Leads, Body 6.6x4.5mm, Pitch 0.65mm, Thermal Pad 4.95x2.74mm, IPC Medium Density)
footprint LT-FE-20-EPV-CA_L (SOP, 20-Leads, Body 6.6x4.5mm, Pitch 0.65mm, Thermal Pad 4.95x2.74mm, IPC High Density)
footprint LT-FE-20-EPV-CA_M (SOP, 20-Leads, Body 6.6x4.5mm, Pitch 0.65mm, Thermal Pad 4.95x2.74mm, IPC Low Density)
pins: 1 GND (power) "Ground. Small-Signal and Power Ground for the IC.", 2 COMP "Error Amp Output. An R-C network connected from this pin to FB sets the loop compensation for the voltage converter.", 3 FB (in) "Feedback Voltage Input. Connect VOUT resistor divider tap to this pin. The output voltage can be adjusted from 2.5V to 14V by the following equation: VOUT = 0.8V? (1+R1/R2) where R1 is the resistor between VOUT and FB an(See Datasheet)", 4 OVP (in) "Overvoltage Protection Input. The common point of a resistor divider between VOUT and GND can also be used to program the overvoltage protection to a lower voltage by the following equation: VOVP = 0.83V? (1+R3/R4) wher(See Datasheet)", 5 VIN (power) "Input Supply Voltage. This pin should be bypassed to the ground plane with at least 10uF of low ESR, low ESL ceramic capacitance. Place this capacitor as close to the pin as possible and have as short a return path to the (See Datasheet)", 6 VIN (power) "Input Supply Voltage. This pin should be bypassed to the ground plane with at least 10uF of low ESR, low ESL ceramic capacitance. Place this capacitor as close to the pin as possible and have as short a return path to the (See Datasheet)", 7 RUN (in) "Shutdown Control Input. Operation will be disabled when the voltage is forced below 0.75V (typical) and less than 1uA of quiescent current will be consumed.", 8 IOUT (out) "A Current approximately 24uA/A of the D Switch Output Current is Sourced from this Pin. An R-C circuit can be used to control the average output current or provide an analog output current monitor (see Applications (See Datasheet)", 9 VOUT (power) "Regulated Output Voltage. This pin should be connected to a low ESR ceramic capacitor of at least 47uF. The capacitor should be placed as close to the pin as possible and have a short return to the ground plane.", 10 GND (power) "Ground. Small-Signal and Power Ground for the IC.", 11 GND (power) "Ground. Small-Signal and Power Ground for the IC.", 12 SW2 "Internal switches C and D and the external inductor are connected here.", 13 SW2 "Internal switches C and D and the external inductor are connected here.", 14 BST2 "Boosted Floating Driver Supply for D-Switch Driver. Connect a 0.1uF capacitor from this pin to SW2.", 15 SW1 "Internal switches A and B and the external inductor are connected here.", 16 SW1 "Internal switches A and B and the external inductor are connected here.", 17 BST1 "Boosted Floating Driver Supply for A-Switch Driver. Connect a 0.1uF capacitor from this pin to SW1.", 18 VCC (power) "External Capacitor Connection for the Regulated VCC Supply. This supply is used to operate internal circuitry and switch drivers. VCC will track VIN up to 4.2V, but will maintain this voltage when VIN > 4.2V. Connect a 1uF (See Datasheet)", 19 PWM/SYNC (in) "Burst Mode Control and Synchronization Input. A DC voltage <0.5V commands Burst Mode operation, >1.5V commands 750kHz fixed frequency mode. A digital pulse train between 300kHz and 1500kHz applied to this pin will override (See Datasheet)", 20 GND (power) "Ground. Small-Signal and Power Ground for the IC.", 21 EP (power) "The exposed pad must be soldered to the PCB and electrically connected to ground through the shortest and lowest impedance connection possible. The bulk of the heat flow is through this pad, so printed circuit board design (See Datasheet)"

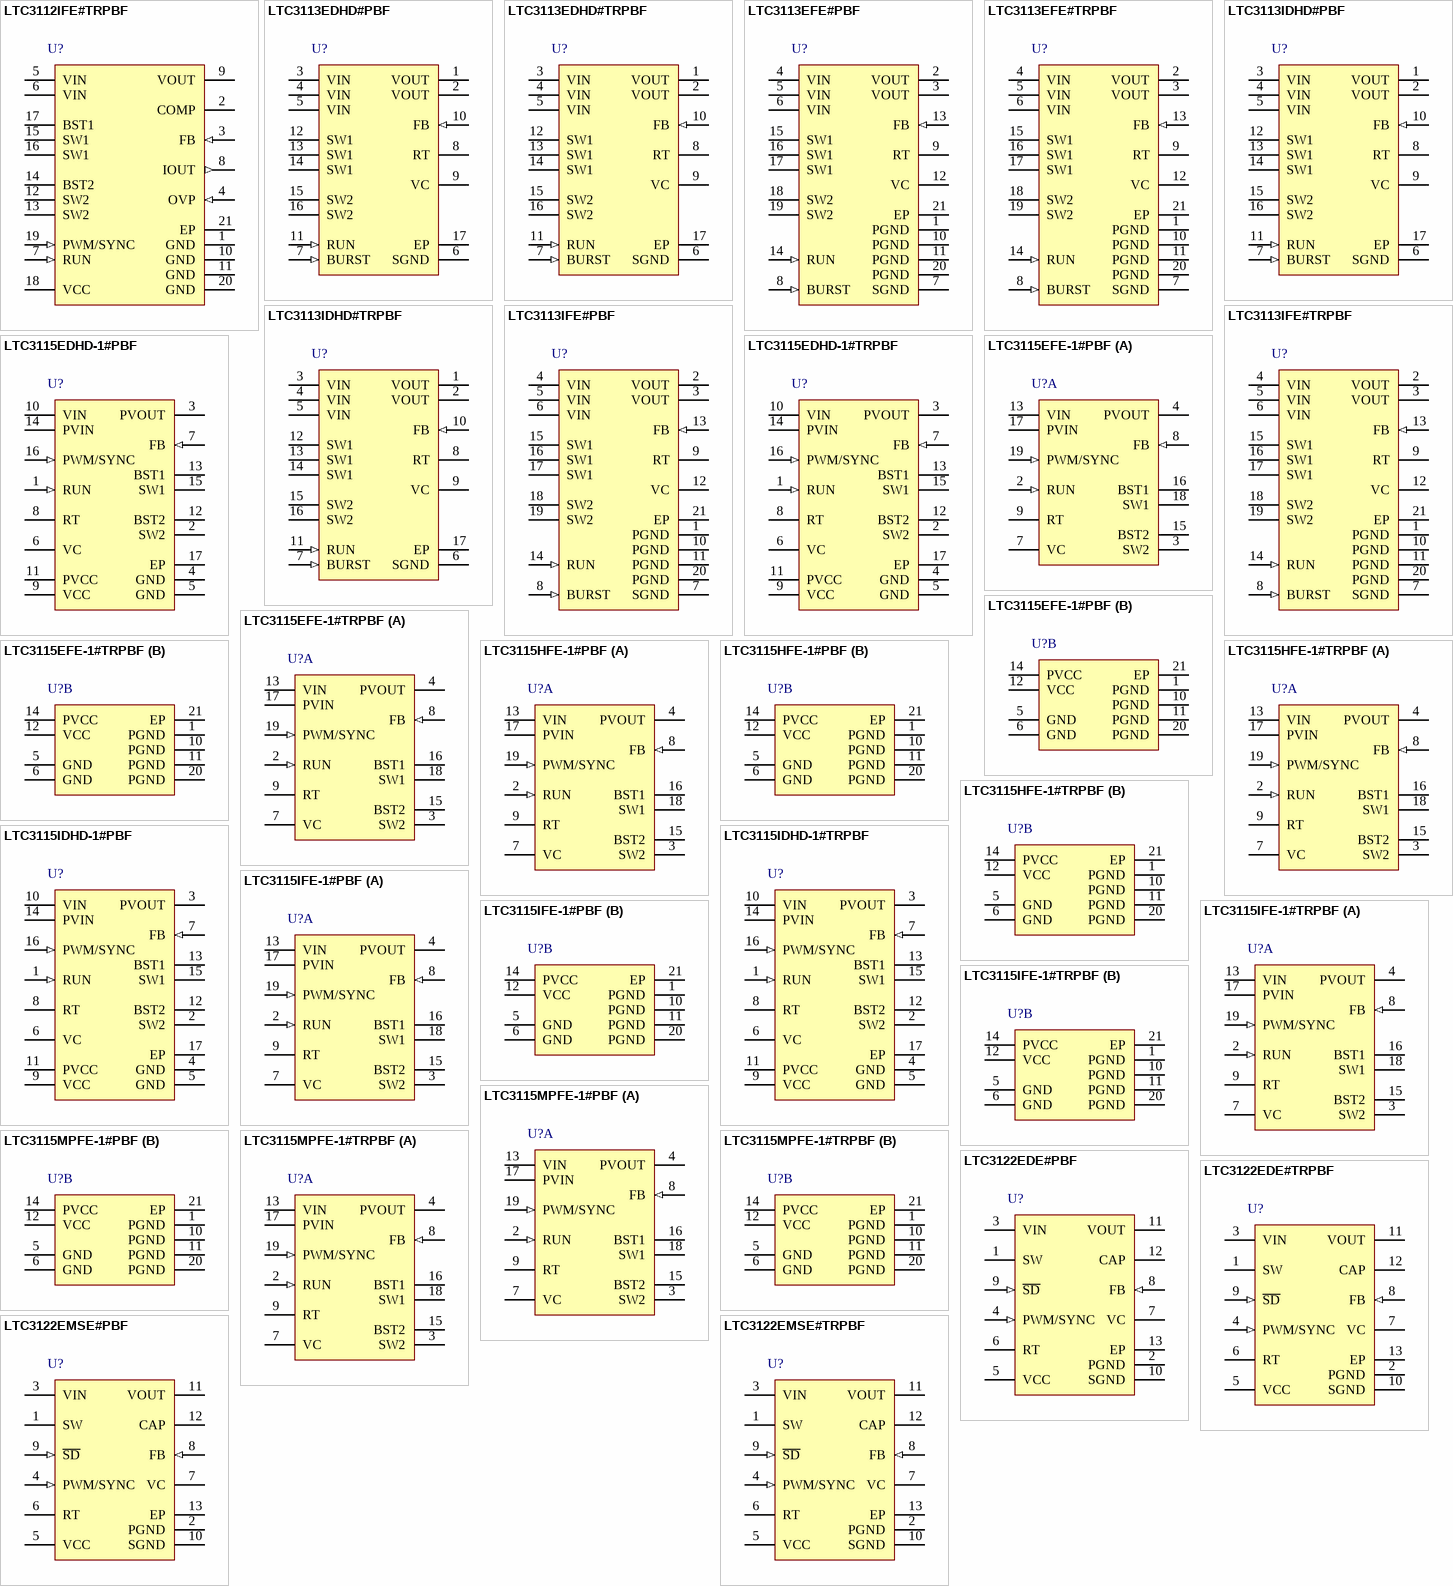
[diagram p14: symbols LTC3112IFE#TRPBF to LTC3122EMSE#TRPBF]

## LTC3112IFE#TRPBF
designator U?
2.5 A Synchronous Buck-Boost DC/DC Converter, 20-pin SOP (FE-20-EPV-CA), -40 to 125 degC, Pb-Free, Tape and Reel; Manufacturer: Linear Technology; PartNumber: LTC3112IFE#TRPBF; Number of Outputs: 1; PackageReference: FE-20; PackageDescription: 20-Pin Plastic TSSOP, Body 6.5 x 4.4 mm, Pitch 0.65 mm; Supplier 1: Digi-Key; Supplier Part Number 1: LTC3112IFE#TRPBF-ND; RoHS: TRUE
footprint LT-FE-20-EPV-CA_N (SOP, 20-Leads, Body 6.6x4.5mm, Pitch 0.65mm, Thermal Pad 4.95x2.74mm, IPC Medium Density)
footprint LT-FE-20-EPV-CA_L (SOP, 20-Leads, Body 6.6x4.5mm, Pitch 0.65mm, Thermal Pad 4.95x2.74mm, IPC High Density)
footprint LT-FE-20-EPV-CA_M (SOP, 20-Leads, Body 6.6x4.5mm, Pitch 0.65mm, Thermal Pad 4.95x2.74mm, IPC Low Density)
pins: 1 GND (power) "Ground. Small-Signal and Power Ground for the IC.", 2 COMP "Error Amp Output. An R-C network connected from this pin to FB sets the loop compensation for the voltage converter.", 3 FB (in) "Feedback Voltage Input. Connect VOUT resistor divider tap to this pin. The output voltage can be adjusted from 2.5V to 14V by the following equation: VOUT = 0.8V? (1+R1/R2) where R1 is the resistor between VOUT and FB an(See Datasheet)", 4 OVP (in) "Overvoltage Protection Input. The common point of a resistor divider between VOUT and GND can also be used to program the overvoltage protection to a lower voltage by the following equation: VOVP = 0.83V? (1+R3/R4) wher(See Datasheet)", 5 VIN (power) "Input Supply Voltage. This pin should be bypassed to the ground plane with at least 10uF of low ESR, low ESL ceramic capacitance. Place this capacitor as close to the pin as possible and have as short a return path to the (See Datasheet)", 6 VIN (power) "Input Supply Voltage. This pin should be bypassed to the ground plane with at least 10uF of low ESR, low ESL ceramic capacitance. Place this capacitor as close to the pin as possible and have as short a return path to the (See Datasheet)", 7 RUN (in) "Shutdown Control Input. Operation will be disabled when the voltage is forced below 0.75V (typical) and less than 1uA of quiescent current will be consumed.", 8 IOUT (out) "A Current approximately 24uA/A of the D Switch Output Current is Sourced from this Pin. An R-C circuit can be used to control the average output current or provide an analog output current monitor (see Applications (See Datasheet)", 9 VOUT (power) "Regulated Output Voltage. This pin should be connected to a low ESR ceramic capacitor of at least 47uF. The capacitor should be placed as close to the pin as possible and have a short return to the ground plane.", 10 GND (power) "Ground. Small-Signal and Power Ground for the IC.", 11 GND (power) "Ground. Small-Signal and Power Ground for the IC.", 12 SW2 "Internal switches C and D and the external inductor are connected here.", 13 SW2 "Internal switches C and D and the external inductor are connected here.", 14 BST2 "Boosted Floating Driver Supply for D-Switch Driver. Connect a 0.1uF capacitor from this pin to SW2.", 15 SW1 "Internal switches A and B and the external inductor are connected here.", 16 SW1 "Internal switches A and B and the external inductor are connected here.", 17 BST1 "Boosted Floating Driver Supply for A-Switch Driver. Connect a 0.1uF capacitor from this pin to SW1.", 18 VCC (power) "External Capacitor Connection for the Regulated VCC Supply. This supply is used to operate internal circuitry and switch drivers. VCC will track VIN up to 4.2V, but will maintain this voltage when VIN > 4.2V. Connect a 1uF (See Datasheet)", 19 PWM/SYNC (in) "Burst Mode Control and Synchronization Input. A DC voltage <0.5V commands Burst Mode operation, >1.5V commands 750kHz fixed frequency mode. A digital pulse train between 300kHz and 1500kHz applied to this pin will override (See Datasheet)", 20 GND (power) "Ground. Small-Signal and Power Ground for the IC.", 21 EP (power) "The exposed pad must be soldered to the PCB and electrically connected to ground through the shortest and lowest impedance connection possible. The bulk of the heat flow is through this pad, so printed circuit board design (See Datasheet)"